# EAGLE library part ET60T-02-24-02-X-RTX-GP-HS (library ET60T-02-24-02-X-RTX-GP-HS)
R/A PLUG TEN60 POWER ASSEM.
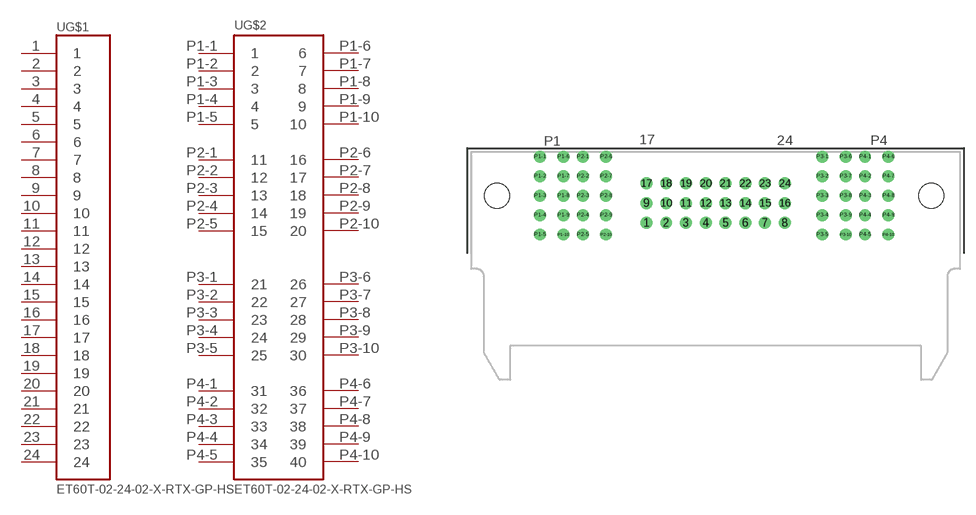
[diagram p0: symbol with the pads of ET60T-02-24-02-X-RTX-GP-HS; footprint ET60T-02-24-02-X-RTX-GP-HS]

Designator prefix -; gates G$1=ET60T-02-24-02-X-RTX-GP-HS-A G$2=ET60T-02-24-02-X-RTX-GP-HS-B

## ET60T-02-24-02-X-RTX-GP-HS  [ET60T-02-24-02-X-RTX-GP-HS]
1  G$1:1
2  G$1:2
3  G$1:3
4  G$1:4
5  G$1:5
6  G$1:6
7  G$1:7
8  G$1:8
9  G$1:9
10  G$1:10
11  G$1:11
12  G$1:12
13  G$1:13
14  G$1:14
15  G$1:15
16  G$1:16
17  G$1:17
18  G$1:18
19  G$1:19
20  G$1:20
21  G$1:21
22  G$1:22
23  G$1:23
24  G$1:24
P1-1  G$2:1
P1-2  G$2:2
P1-3  G$2:3
P1-4  G$2:4
P1-5  G$2:5
P1-6  G$2:6
P1-7  G$2:7
P1-8  G$2:8
P1-9  G$2:9
P1-10  G$2:10
P2-1  G$2:11
P2-2  G$2:12
P2-3  G$2:13
P2-4  G$2:14
P2-5  G$2:15
P2-6  G$2:16
P2-7  G$2:17
P2-8  G$2:18
P2-9  G$2:19
P2-10  G$2:20
P3-1  G$2:21
P3-2  G$2:22
P3-3  G$2:23
P3-4  G$2:24
P3-5  G$2:25
P3-6  G$2:26
P3-7  G$2:27
P3-8  G$2:28
P3-9  G$2:29
P3-10  G$2:30
P4-1  G$2:31
P4-2  G$2:32
P4-3  G$2:33
P4-4  G$2:34
P4-5  G$2:35
P4-6  G$2:36
P4-7  G$2:37
P4-8  G$2:38
P4-9  G$2:39
P4-10  G$2:40

## Footprint ET60T-02-24-02-X-RTX-GP-HS (pad centres in mm)
R/A PLUG TEN60 POWER ASSEM.
drill 1.02 pad 1.5 round: 1 -8.89,4.4; 2 -6.35,4.4; 3 -3.81,4.4; 4 -1.27,4.4; 5 1.27,4.4; 6 3.81,4.4; 7 6.35,4.4; 8 8.89,4.4; 9 -8.89,6.94; 10 -6.35,6.94; 11 -3.81,6.94; 12 -1.27,6.94; 13 1.27,6.94; 14 3.81,6.94; 15 6.35,6.94; 16 8.89,6.94; 17 -8.89,9.48; 18 -6.35,9.48; 19 -3.81,9.48; 20 -1.27,9.48; 21 1.27,9.48; 22 3.81,9.48; 23 6.35,9.48; 24 8.89,9.48; P1-1 -22.56,12.9; P1-2 -22.56,10.4; P1-3 -22.56,7.9; P1-4 -22.56,5.4; P1-5 -22.56,2.9; P1-6 -19.56,12.9; P1-7 -19.56,10.4; P1-8 -19.56,7.9; P1-9 -19.56,5.4; P1-10 -19.56,2.9; P2-1 -17.06,12.9; P2-2 -17.06,10.4; P2-3 -17.06,7.9; P2-4 -17.06,5.4; P2-5 -17.06,2.9; P2-6 -14.06,12.9; P2-7 -14.06,10.4; P2-8 -14.06,7.9; P2-9 -14.06,5.4; P2-10 -14.06,2.9; P3-1 13.7,12.9; P3-2 13.7,10.4; P3-3 13.7,7.9; P3-4 13.7,5.4; P3-5 13.7,2.9; P3-6 16.7,12.9; P3-7 16.7,10.4; P3-8 16.7,7.9; P3-9 16.7,5.4; P3-10 16.7,2.9; P4-1 19.2,12.9; P4-2 19.2,10.4; P4-3 19.2,7.9; P4-4 19.2,5.4; P4-5 19.2,2.9; P4-6 22.2,12.9; P4-7 22.2,10.4; P4-8 22.2,7.9; P4-9 22.2,5.4; P4-10 22.2,2.9
hole 3.2 at -28.06,7.9
hole 3.2 at 27.7,7.9